# Altium schematic symbol library Discrete_Transistors_BJT_GOST.SchLib: 3 symbols
Pins are listed as number, name and electrical type; pins without a type are passive.

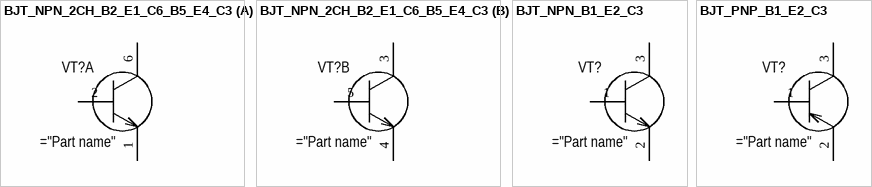
[diagram p0: symbols BJT_NPN_2CH_B2_E1_C6_B5_E4_C3 to BJT_PNP_B1_E2_C3]

## BJT_NPN_2CH_B2_E1_C6_B5_E4_C3
designator VT?
part A pins: 1 Emitter, 2 Base, 6 Collector
part B pins: 3 Collector, 4 Emitter, 5 Base

## BJT_NPN_B1_E2_C3
designator VT?
pins: 1 Base, 2 Emitter, 3 Collector

## BJT_PNP_B1_E2_C3
designator VT?
pins: 1 Base, 2 Emitter, 3 Collector